# Altium footprint library myPcbLib.PcbLib: 124 footprints (part 6 of 8)
Each footprint in its own frame and in the unit in brackets; x right, y up, seen from the top. Pads: shape width x height; smd on the part's side, far side on the other; paste and mask are expansions set on the pad; w line width, h text height; cw(c..) or ccw(c..) is an arc to the next point about the centre after c.
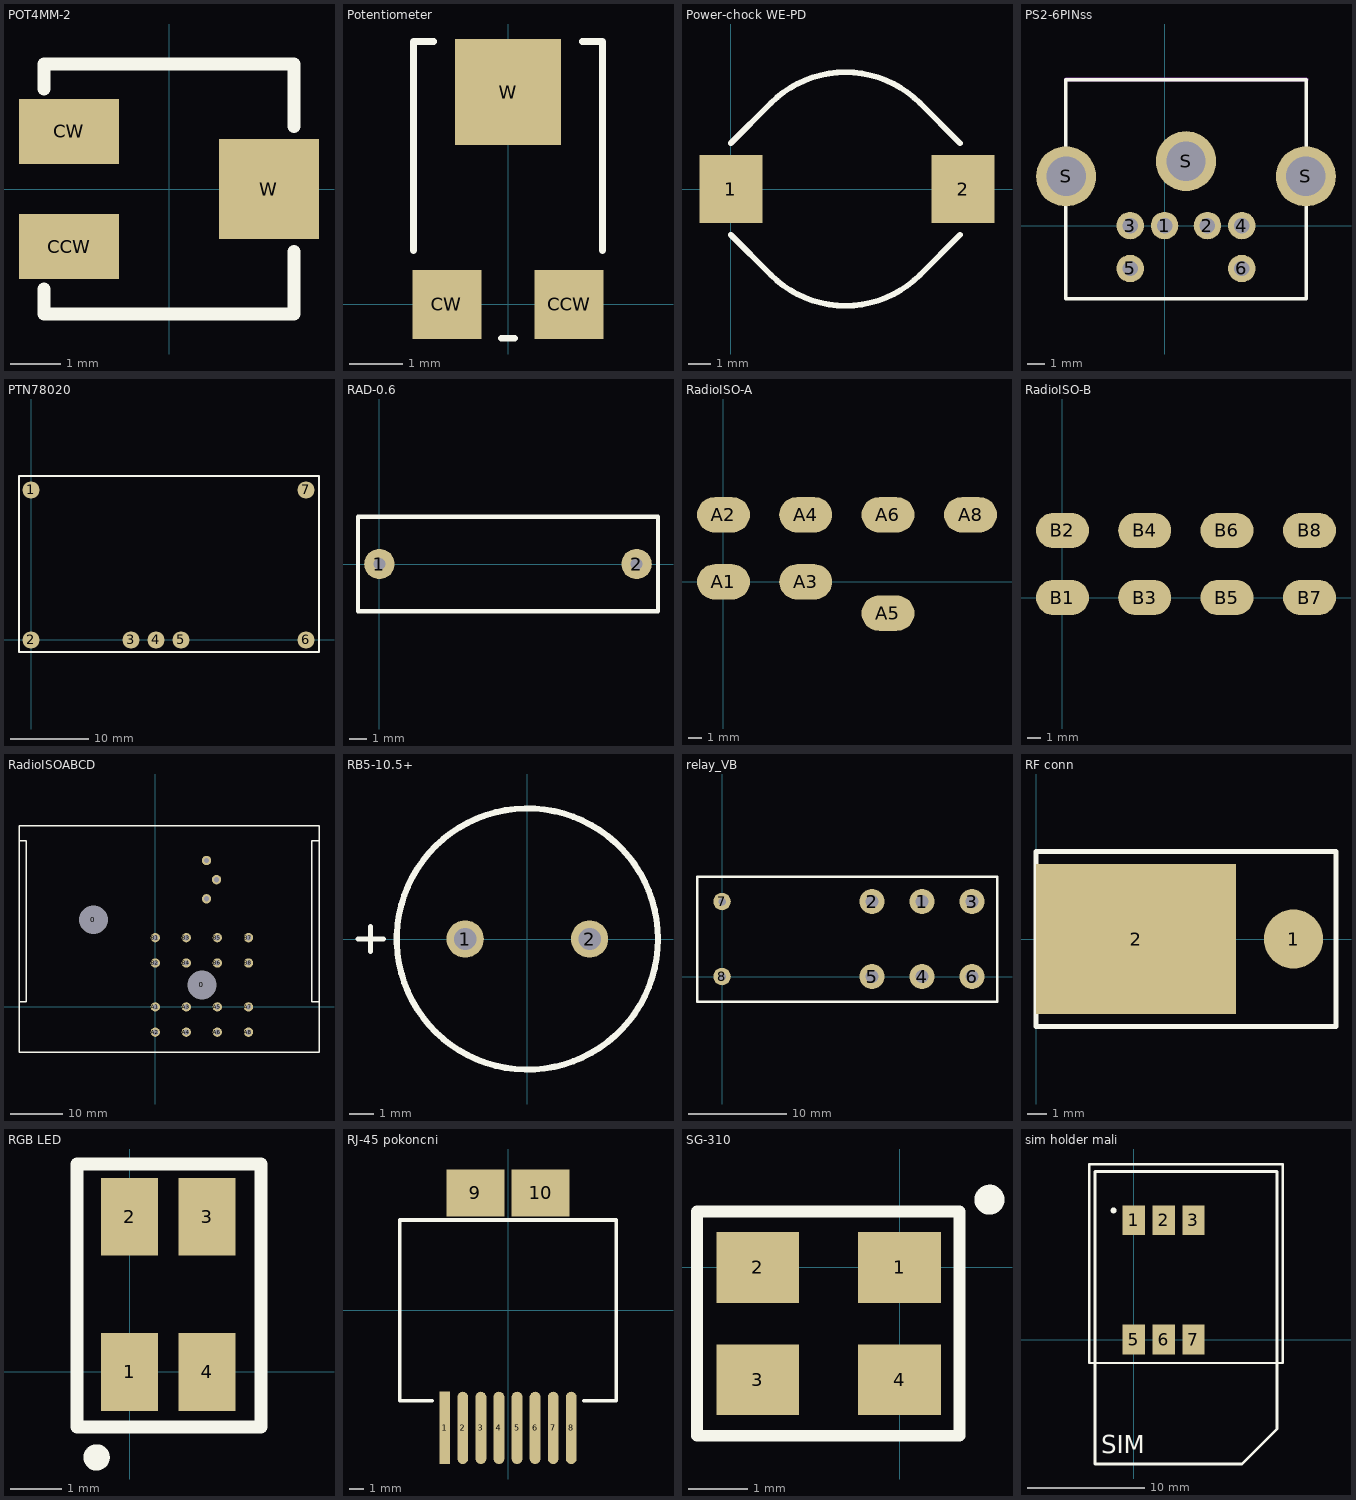
[diagram p5: the footprints below, top view; thin cyan lines are the x and y axes]

## POT4MM-2 [mm] "Square Trimming Potentiometer"
pads (3):
  rect 2x1.3 smd: CCW(-2,-1.15) CW(-2,1.15)
  rect 2x2 smd: W(2,0)
Top Overlay:
  lines w0.254: -2.5,-2 -2.5,-2.5 2.5,-2.5 2.5,-1.25 ; -2.5,2 -2.5,2.5 2.5,2.5 2.5,1.25

## Potentiometer [mm]
pads (3):
  rect 1.3x1.3 smd: CCW(1.15,0) CW(-1.15,0)
  rect 2x2 smd: W(0,4)
Top Overlay:
  lines w0.127: -1.778,1.016 -1.778,4.953 -1.397,4.953 ; -0.127,-0.635 0.127,-0.635 ; 1.397,4.953 1.778,4.953 1.778,1.016

## Power-chock WE-PD [mm]
pads (2):
  rect 2.8x3 smd: 1(0,0) 2(10.3,0)
Top Overlay:
  lines w0.254: 0,-2.032 1.778,-3.81 ccw(c5.08,-0.508) 8.382,-3.81 10.16,-2.032 ; 0,2.032 1.778,3.81 cw(c5.08,0.508) 8.382,3.81 10.16,2.032

## PS2-6PINss [mm] "PS2 Socket, 6 Pin, Through Hole"
pads (9):
  round 1.6 hole 0.9: 1(0,0) 2(2.5,0) 3(-2,0) 4(4.5,0) 5(-2,-2.5) 6(4.5,-2.5)
  round 3.5 hole 2.3: S(-5.735,2.861) S(1.25,3.75) S(8.235,2.861)
Top Overlay:
  lines w0.2: -5.75,-4.25 8.25,-4.25 8.25,8.5 -5.75,8.5 -5.75,-4.25
Mechanical 1:
  lines w0.254: -5.715,8.509 8.255,8.509
  text "PCB edge" at -5.588,8.89 h0.51

## PTN78020 [mil]
pads (7):
  round 85 smd: 1(0,750) 2(0,0) 3(500,0) 4(625,0) 5(750,0) 6(1375,0) 7(1375,750)
Top Overlay:
  lines w10: -60,-60 1440,-60 1440,820 -60,820 -60,-60

## RAD-0.6 [mil] "Thru-Hole; 2 Leads; 0.6 in Pin Spacing"
height 236.22
pads (2):
  round 70 hole 27.56: 1(0,0) 2(590.55,0)
Top Overlay:
  lines w10: -49.21,-108.27 -49.21,108.27 639.76,108.27 639.76,-108.27 -49.21,-108.27

## RadioISO-A [mil] "Radio ISO A SMD"
pads (7):
  oval 150x100 smd: A1(0,0) A2(0,190) A3(233,0) A4(233,190) A5(466,-89) A6(466,190) A8(700,190)

## RadioISO-B [mil] "Radio ISO B SMD"
pads (8):
  oval 150x100 smd: B1(0,0) B2(0,190) B3(233,0) B4(233,190) B5(466,0) B6(466,190) B7(700,0) B8(700,190)

## RadioISOABCD [mil] "Radio ISO connector ABCD"
pads (21):
  round 70 hole 216.54: 0(-465,655) 0(350,165)
  round 70 hole 39.37: A1(0,0) A2(0,-190) A3(233,0) A4(233,-190) A5(466,0) A6(466,-190) A7(700,0) A8(700,-190) B1(0,520) B2(0,330) B3(233,520) B4(233,330) B5(466,520) B6(466,330) B7(700,520) B8(700,330) C10(385,1100) C11(385,812) C12(460,956)
Top Overlay:
  lines w10: -1024,40 -969,40 -969,1250 -1024,1250 ; 1230,40 1175,40 1175,1250 1230,1250 ; -1024,-340 1230,-340 1230,1360 -1024,1360 -1024,-340

## RB5-10.5+ [mm] "Motor, General Kind; 2 Leads"
pads (2):
  round 1.5 hole 0.9: 1(-2.5,0) 2(2.5,0)
Top Overlay:
  circle w0.25: c0,0 r5.25
  lines w0.2: -6.808,0 -5.792,0 ; -6.3,-0.508 -6.3,0.508
3D body: height 15, standoff 0, extent -5.208,-5.239 5.25,5.24

## relay_VB [mm]
pads (8):
  round 2.54 hole 1.35: 1(20.32,7.62) 2(15.24,7.62) 3(25.4,7.62) 4(20.32,0) 5(15.24,0) 6(25.4,0)
  round 1.778 hole 0.762: 7(0,7.62) 8(0,0)
Top Overlay:
  lines w0.254: -2.54,-2.54 27.94,-2.54 27.94,10.16 -2.54,10.16 -2.54,-2.54

## RF conn [mm]
pads (2):
  round 3 smd: 1(13.081,0)
  rect 10.16x7.62 smd: 2(5.08,0)
Top Overlay:
  lines w0.254: 0,-4.445 15.24,-4.445 15.24,4.445 0,4.445 0,-4.445

## RGB LED [mm]
pads (4):
  rect 1.1x1.5 smd: 1(0,0) 2(0,3) 3(1.5,3) 4(1.5,0)
Top Overlay:
  circle w0.254: c-0.635,-1.651 r0.127
  lines w0.254: -1.016,-1.064 2.54,-1.064 2.54,4.016 -1.016,4.016 -1.016,-1.064

## RJ-45 pokoncni [mil]
pads (10):
  rect 30x200 smd: 1(-175,-325)
  oval 30x200 smd: 2(-125,-325) 3(-75,-325) 4(-25,-325) 5(25,-325) 6(75,-325) 7(125,-325) 8(175,-325)
  rect 160x130 smd: 9(-90,325) 10(90,325)
Top Overlay:
  lines w10: -210,-250 -300,-250 -300,250 300,250 300,-250 210,-250

## SG-310 [mm]
pads (4):
  rect 1.4x1.2 smd: 1(0,0) 2(-2.4,0) 3(-2.4,-1.9) 4(0,-1.9)
Top Overlay:
  circle w0.254: c1.524,1.148 r0.127
  lines w0.2: -1.675,-2.85 1.016,-2.85 1.016,0.95 -3.429,0.95 -3.429,-2.85 -0.725,-2.85

## sim holder mali [mm] "FARNELL PN:9728473"
pads (6):
  rect 1.905x2.54 smd: 1(0,10.16) 2(2.54,10.16) 3(5.08,10.16) 5(0,0) 6(2.54,0) 7(5.08,0)
Top Overlay:
  circle w0.254: c-1.727,11 r0.127
  lines w0.2: -3.81,14.953 12.7,14.953 ; -3.81,14.961 -3.81,-2 12.7,-2 12.7,14.935
  lines w0.254: -3.302,-10.604 -3.302,14.326 12.192,14.326 12.192,-7.62 9.208,-10.604 -3.302,-10.604
  text "SIM" at -2.769,-9.677 h1.52